# Altium footprint library FTSH10501LDVK.PcbLib: 1 footprints
Each footprint in its own frame and in the unit in brackets; x right, y up, seen from the top. Pads: shape width x height; smd on the part's side, far side on the other; paste and mask are expansions set on the pad; w line width, h text height; cw(c..) or ccw(c..) is an arc to the next point about the centre after c.
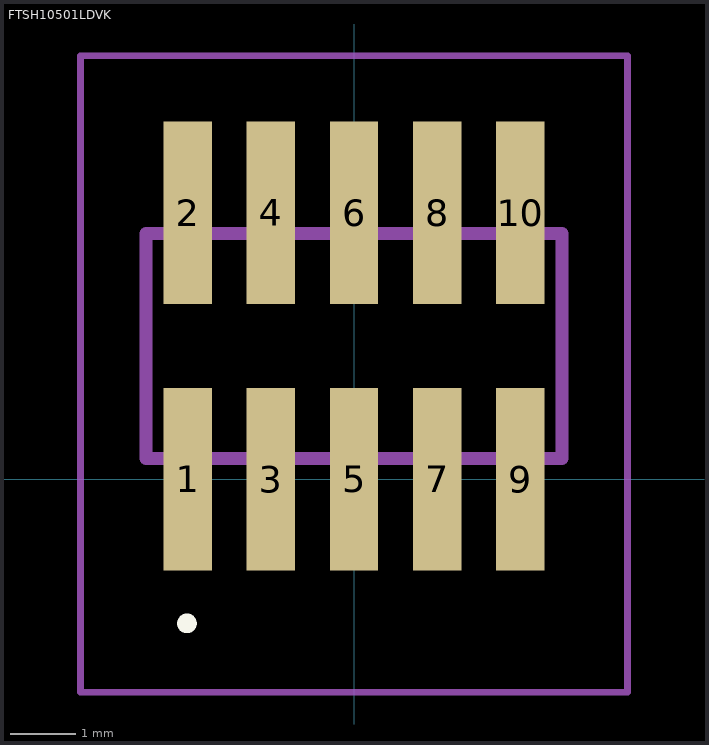
[diagram p0: the footprint, top view; thin cyan lines are the x and y axes]

## FTSH10501LDVK [mm]
pads (10):
  rect 0.74x2.79 smd: 1(-2.54,0) 2(-2.54,4.07) 3(-1.27,0) 4(-1.27,4.07) 5(0,0) 6(0,4.07) 7(1.27,0) 8(1.27,4.07) 9(2.54,0) 10(2.54,4.07)
Top Overlay:
  lines w0.2: -2.6,-2.2 -2.6,-2.2 ; -2.6,-2.2 ccw(c-2.55,-2.2) -2.5,-2.2 ; -2.6,-2.2 cw(c-2.55,-2.2) -2.5,-2.2 ; -2.6,-2.2 -2.6,-2.2 ; -2.6,-2.2 ccw(c-2.55,-2.2) -2.5,-2.2 ; -2.5,-2.2 -2.5,-2.2
Mechanical 15:
  lines w0.2: -3.175,0.32 3.175,0.32 3.175,3.75 -3.175,3.75 -3.175,0.32
Mechanical 20:
  lines w0.1: -4.175,-3.25 4.175,-3.25 4.175,6.465 -4.175,6.465 -4.175,-3.25